# EAGLE library part FH28-10S-0.5SH_05_ (library FH28-10S-0.5SH_05_)
Hirose FH28 Series 0.5mm Pitch 10 Way 1 Row Right Angle SMT Female FPC Connector with Y, Gold Plated Contacts Source: Datasheet <https://componentsearchengine.com/Datasheets/1/FH28-10S-0.5SH(05).pdf>
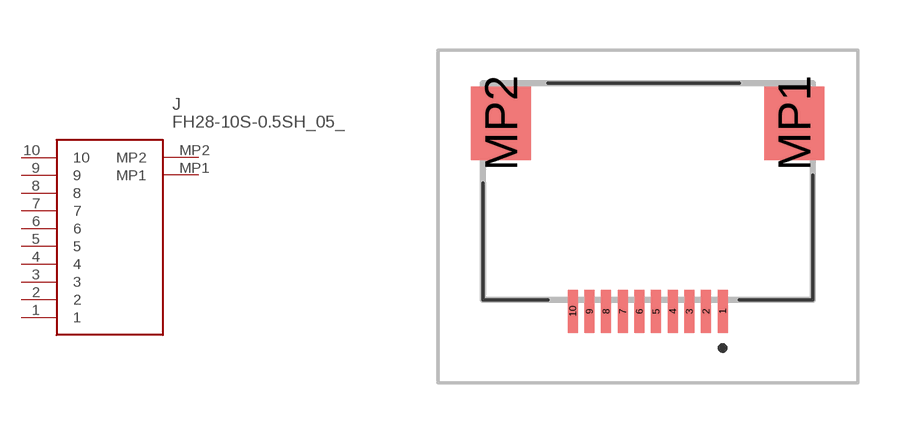
[diagram p0: symbol with the pads of FH2810S05SH05; footprint FH2810S05SH05]

Designator prefix J

## FH28-10S-0.5SH_05_ (Description: Hirose FH28 Series 0.5mm Pitch 10 Way 1 Row Right Angle SMT Female FPC Connector with Y, Gold Plated Contacts; Height: 5.4mm; Manufacturer_Name: Hirose; Manufacturer_Part_Number: FH28-10S-0.5SH(05); Mouser_Part_Number: 798-FH2810S05SH05; Mouser_Price-Stock: https://www.mouser.com/Search/Refine.aspx?Keyword=798-FH2810S05SH05)  [FH2810S05SH05]
1  1
2  2
3  3
4  4
5  5
6  6
7  7
8  8
9  9
10  10
MP1  MP1
MP2  MP2

## Footprint FH2810S05SH05 (pad centres in mm)
FH28-10S-0.5SH(05)-1
smd 0.3 x 1.3: 1 2.25,-3.6; 2 1.75,-3.6; 3 1.25,-3.6; 4 0.75,-3.6; 5 0.25,-3.6; 6 -0.25,-3.6; 7 -0.75,-3.6; 8 -1.25,-3.6; 9 -1.75,-3.6; 10 -2.25,-3.6
smd 1.8 x 2.2: MP1 4.4,2.05; MP2 -4.4,2.05